# Altium schematic symbol library TPS62827DMQR.SchLib: 1 symbol
Pins are listed as number, name and electrical type; pins without a type are passive.

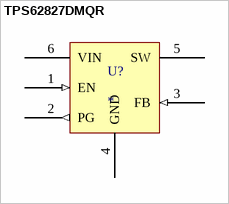
[diagram p0: symbol TPS62827DMQR]

## TPS62827DMQR
designator U?
2.4V-5.5V input, 4A step-down converter with 1% Accuracy in 1.5mm x 1.5mm QFN 6-VSON-HR -40 to 125; Manufacturer: Texas Instruments; Manufacturer Part Number: TPS62827DMQR; Supplier 1: Digi-Key; RoHS: Yes; Category: Voltage Regulators - Switching; Pricing 1: 1=1.93000, 10=1.73000, 25=1.63240, 100=1.30590, 250=1.14268, 500=1.11004, 1000=0.88150 (USD); RoHS Compliant: Yes; Supplier Part Number 1: 296-TPS62827DMQRCT-ND
footprint TPS62827DMQR
pins: 1 EN (in), 2 PG (out), 3 FB (in), 4 GND, 5 SW (power), 6 VIN (power)